# Altium integrated library Renesas Microprocessor SuperH.IntLib: 433 symbols (part 27 of 62)
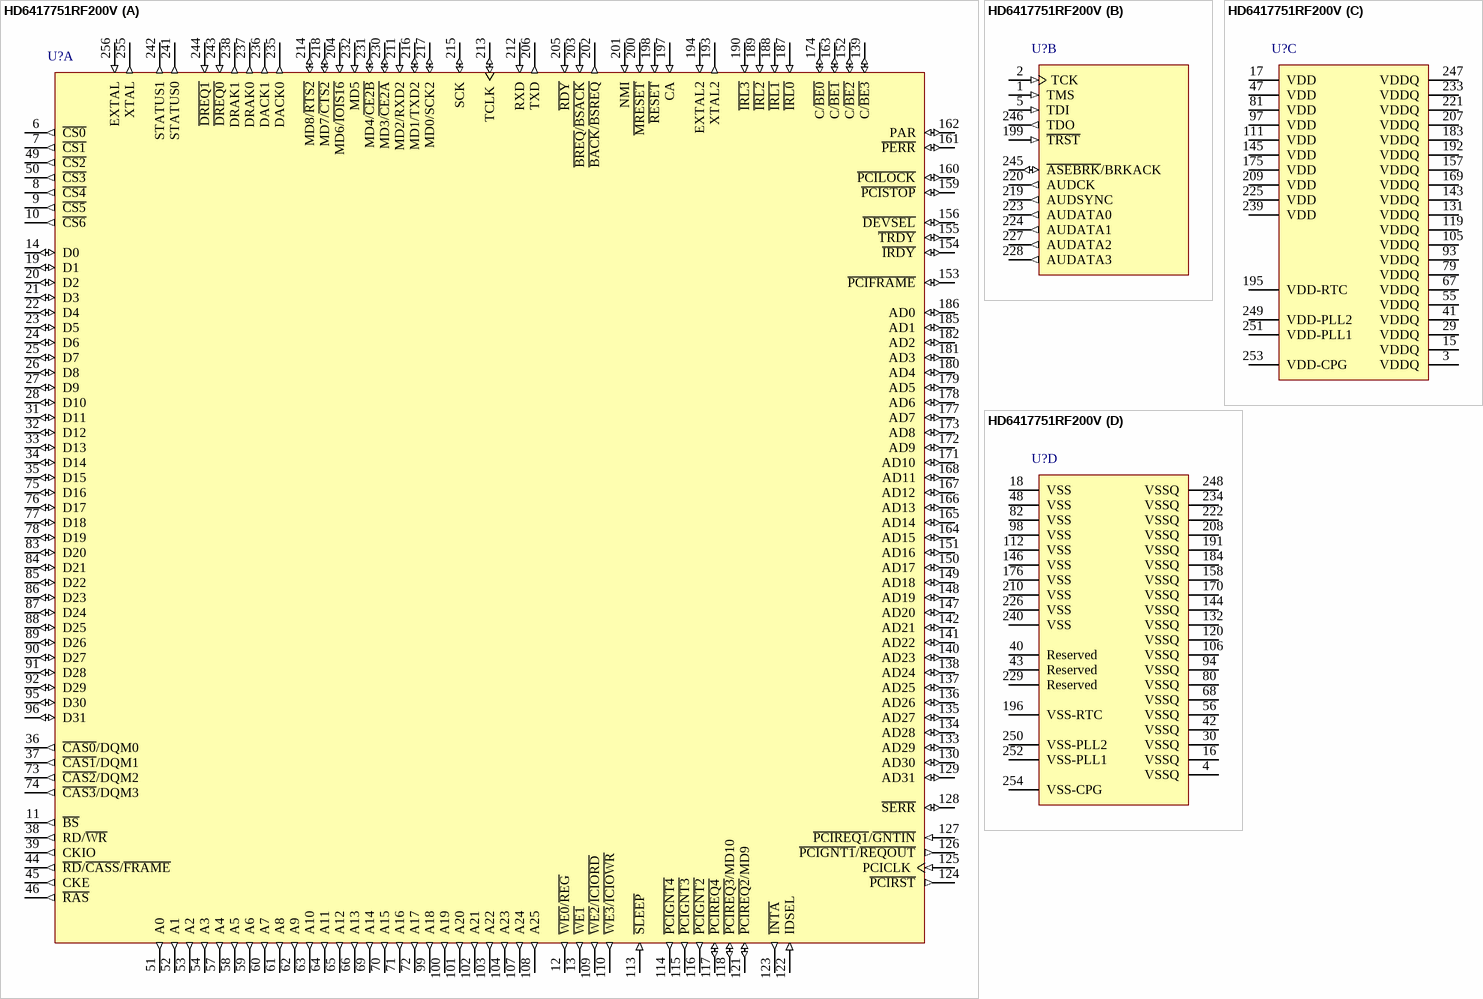
[diagram p299: symbol HD6417751RF200V]

## HD6417751RF200V
designator U?
32-Bit RISC Microcomputer, SH7750 Series, SH-4 core, 1.5V 200MHz, 256-pin QFP (Pb-Free), -20 to 75°C; Published: 28-Aug-2009; DatasheetVersion: Rev.4.00, Oct-2008; PackageVersion: Sep-2005; PackageReference: PRQP0256LA-B; Publisher: Altium Limited; PackageDescription: 256-Pin Plastic Quad Flat Pack, 28 x 28 x 3.2 mm Body, 0.4 mm Pitch; Supplier 1: Digi-Key; Supplier Part Number 1: HD6417751RF200V-ND; Code_JEITA: P-HQFP256-28x28-0.40; ComponentLink1Description: Manufacturer Link; ComponentLink1URL: http://www.renesas.com/fmwk.jsp?cnt=sh7751r_root.jsp&fp=/products/mpumcu/superh_family/sh7750_series/sh7751r_group/; ComponentLink2Description: Datasheet; ComponentLink2URL: http://documentation.renesas.com/eng/products/mpumcu/rej09b0370_7751hm.pdf; ComponentLink3Description: Packaging Specification; ComponentLink3URL: http://sg.renesas.com/media/products/common_info/package/pdf/ic/code/prqp0256la_b.pdf
footprint PRQP0256LA-B_N (Shrink QFP, 256-Leads, Body 28x28mm, Pitch 0.4mm, IPC Medium Density)
footprint PRQP0256LA-B_L (Shrink QFP, 256-Leads, Body 28x28mm, Pitch 0.4mm, IPC High Density)
footprint PRQP0256LA-B_M (Shrink QFP, 256-Leads, Body 28x28mm, Pitch 0.4mm, IPC Low Density)
part A pins: 6 ~{CS0} (out) "Chip select 0", 7 ~{CS1} (out) "Chip select 1", 8 ~{CS4} (out) "Chip select 4", 9 ~{CS5} (out) "Chip select 5", 10 ~{CS6} (out) "Chip select 6", 11 ~{BS} (out) "Bus start", 12 ~{WE0}/~{REG} (out) "D7–D0 select signal", 13 ~{WE1} (out) "D15-D8 select signal", 14 D0 (io) "Data", 19 D1 (io) "Data", 20 D2 (io) "Data", 21 D3 (io) "Data", 22 D4 (io) "Data", 23 D5 (io) "Data", 24 D6 (io) "Data", 25 D7 (io) "Data", 26 D8 (io) "Data", 27 D9 (io) "Data", 28 D10 (io) "Data", 31 D11 (io) "Data", 32 D12 (io) "Data", 33 D13 (io) "Data", 34 D14 (io) "Data", 35 D15 (io) "Data", 36 ~{CAS0}/DQM0 (out) "D7–D0 select signal", 37 ~{CAS1}/DQM1 (out) "D15–D8 select signal", 38 RD/~{WR} (out) "Read/write", 39 CKIO (out) "Clock output", 44 ~{RD}/~{CASS}/~{FRAME} (out) "Read/CAS/FRAME", 45 CKE (out) "Clock output enable", 46 ~{RAS} (out) "RAS", 49 ~{CS2} (out) "Chip select 2", 50 ~{CS3} (out) "Chip select 3", 51 A0 (out) "Address", 52 A1 (out) "Address", 53 A2 (out) "Address", 54 A3 (out) "Address", 57 A4 (out) "Address", 58 A5 (out) "Address", 59 A6 (out) "Address", 60 A7 (out) "Address", 61 A8 (out) "Address", 62 A9 (out) "Address", 63 A10 (out) "Address", 64 A11 (out) "Address", 65 A12 (out) "Address", 66 A13 (out) "Address", 69 A14 (out) "Address", 70 A15 (out) "Address", 71 A16 (out) "Address", 72 A17 (out) "Address", 73 ~{CAS2}/DQM2 (out) "D23–D16 select signal", 74 ~{CAS3}/DQM3 (out) "D31–D24 select signal", 75 D16 (io) "Data", 76 D17 (io) "Data", 77 D18 (io) "Data", 78 D19 (io) "Data", 83 D20 (io) "Data", 84 D21 (io) "Data", 85 D22 (io) "Data", 86 D23 (io) "Data", 87 D24 (io) "Data", 88 D25 (io) "Data", 89 D26 (io) "Data", 90 D27 (io) "Data", 91 D28 (io) "Data", 92 D29 (io) "Data", 95 D30 (io) "Data", 96 D31 (io) "Data", 99 A18 (out) "Address", 100 A19 (out) "Address", 101 A20 (out) "Address", 102 A21 (out) "Address", 103 A22 (out) "Address", 104 A23 (out) "Address", 107 A24 (out) "Address", 108 A25 (out) "Address", 109 ~{WE2}/~{ICIORD} (out) "D23–D16 select signal", 110 ~{WE3}/~{ICIOWR} (out) "D31–D24 select signal", 113 ~{SLEEP} (in) "Sleep", 114 ~{PCIGNT4} (out) "Bus grant (host function)", 115 ~{PCIGNT3} (out) "Bus grant (host function)", 116 ~{PCIGNT2} (out) "Bus grant (host function)", 117 ~{PCIREQ4} (io) "Bus request (host function)", 118 ~{PCIREQ3}/MD10 (io) "Bus request (host function)/mode", 121 ~{PCIREQ2}/MD9 (io) "Bus request (host function)/mode", 122 IDSEL (in) "Configuration device select", 123 ~{INTA} (out) "Interrupt (async)", 124 ~{PCIRST} (out) "Reset output", 125 PCICLK (in) "PCI input clock", 126 ~{PCIGNT1}/~{REQOUT} (out) "Bus grant (host function)/bus request", 127 ~{PCIREQ1}/~{GNTIN} (in) "Bus request (host function)/bus grant", 128 ~{SERR} (io) "System error", 129 AD31 (io) "PCI address/data/port", 130 AD30 (io) "PCI address/data/port", 133 AD29 (io) "PCI address/data/port", 134 AD28 (io) "PCI address/data/port", 135 AD27 (io) "PCI address/data/port", 136 AD26 (io) "PCI address/data/port", 137 AD25 (io) "PCI address/data/port", 138 AD24 (io) "PCI address/data/port", 139 C/~{BE3} (io) "Command/byte enable", 140 AD23 (io) "PCI address/data/port", 141 AD22 (io) "PCI address/data/port", 142 AD21 (io) "PCI address/data/port", 147 AD20 (io) "PCI address/data/port", 148 AD19 (io) "PCI address/data/port", 149 AD18 (io) "PCI address/data/port", 150 AD17 (io) "PCI address/data/port", 151 AD16 (io) "PCI address/data/port", 152 C/~{BE2} (io) "Command/byte enable", 153 ~{PCIFRAME} (io) "Bus cycle", 154 ~{IRDY} (io) "Initiator ready", 155 ~{TRDY} (io) "Target ready", 156 ~{DEVSEL} (io) "Device select", 159 ~{PCISTOP} (io) "Transaction stop", 160 ~{PCILOCK} (io) "Exclusive access", 161 ~{PERR} (io) "Parity error", 162 PAR (io) "Parity", 163 C/~{BE1} (io) "Command/byte enable", 164 AD15 (io) "PCI address/data/port", 165 AD14 (io) "PCI address/data/port", 166 AD13 (io) "PCI address/data/port", 167 AD12 (io) "PCI address/data/port", 168 AD11 (io) "PCI address/data/port", 171 AD10 (io) "PCI address/data/port", 172 AD9 (io) "PCI address/data/port", 173 AD8 (io) "PCI address/data/port", 174 C/~{BE0} (io) "Command/byte enable", 177 AD7 (io) "PCI address/data/port", 178 AD6 (io) "PCI address/data/port", 179 AD5 (io) "PCI address/data/port", 180 AD4 (io) "PCI address/data/port", 181 AD3 (io) "PCI address/data/port", 182 AD2 (io) "PCI address/data/port", 185 AD1 (io) "PCI address/data/port", 186 AD0 (io) "PCI address/data/port", 187 ~{IRL0} (in) "Interrupt 0", 188 ~{IRL1} (in) "Interrupt 1", 189 ~{IRL2} (in) "Interrupt 2", 190 ~{IRL3} (in) "Interrupt 3", 193 XTAL2 (out) "RTC crystal resonator pin", 194 EXTAL2 (in) "RTC crystal resonator pin", 197 CA (in) "Hardware standby", 198 ~{RESET} (in) "Reset", 200 ~{MRESET} (in) "Manual reset", 201 NMI (in) "Nonmaskable interrupt", 202 ~{BACK}/~{BSREQ} (out) "Bus acknowledge/bus request", 203 ~{BREQ}/~{BSACK} (in) "Bus request/bus acknowledge", 204 MD6/~{IOIS16} (in) "Mode/IOIS16 (PCMCIA)", 205 ~{RDY} (in) "Bus ready", 206 TXD (out) "SCI data output", 211 MD2/RXD2 (in) "Mode/SCIF data input", 212 RXD (in) "SCI data input", 213 TCLK (io) "RTC/TMU clock", 214 MD8/~{RTS2} (io) "Mode/SCIF data control (RTS)", 215 SCK (io) "SCIF clock", 216 MD1/TXD2 (io) "Mode/SCIF data output", 217 MD0/SCK2 (io) "Mode/SCIF clock", 218 MD7/~{CTS2} (io) "Mode/SCIF data control (CTS)", 230 MD3/~{CE2A} (io) "Mode/PCMCIA-CE", 231 MD4/~{CE2B} (io) "Mode/PCMCIA-CE", 232 MD5 (in) "Mode", 235 DACK0 (out) "DMAC0 bus acknowledge", 236 DACK1 (out) "DMAC1 bus acknowledge", 237 DRAK0 (out) "DMAC0 request acknowledge", 238 DRAK1 (out) "DMAC1 request acknowledge", 241 STATUS0 (out) "Status", 242 STATUS1 (out) "Status", 243 ~{DREQ0} (in) "Request from DMAC0", 244 ~{DREQ1} (in) "Request from DMAC1", 255 XTAL (out) "Crystal resonator", 256 EXTAL (in) "External input clock/crystal resonator"
part B pins: 1 TMS (in) "Mode (H-UDI)", 2 TCK (in) "Clock (H-UDI)", 5 TDI (in) "Data in (H-UDI)", 199 ~{TRST} (in) "Reset (H-UDI)", 219 AUDSYNC (out) "AUDsync", 220 AUDCK (out) "AUDclock", 223 AUDATA0 (out) "AUDdata", 224 AUDATA1 (out) "AUDdata", 227 AUDATA2 (out) "AUDdata", 228 AUDATA3 (out) "AUDdata", 245 ~{ASEBRK}/BRKACK (io) "Pin break/acknowledge (H-UDI)", 246 TDO (out) "Data out (H-UDI)"
part C pins: 3 VDDQ (power) "IO VDD", 15 VDDQ (power) "IO VDD", 17 VDD (power) "Internal VDD", 29 VDDQ (power) "IO VDD", 41 VDDQ (power) "IO VDD", 47 VDD (power) "Internal VDD", 55 VDDQ (power) "IO VDD", 67 VDDQ (power) "IO VDD", 79 VDDQ (power) "IO VDD", 81 VDD (power) "Internal VDD", 93 VDDQ (power) "IO VDD", 97 VDD (power) "Internal VDD", 105 VDDQ (power) "IO VDD", 111 VDD (power) "Internal VDD", 119 VDDQ (power) "IO VDD", 131 VDDQ (power) "IO VDD", 143 VDDQ (power) "IO VDD", 145 VDD (power) "Internal VDD", 157 VDDQ (power) "IO VDD", 169 VDDQ (power) "IO VDD", 175 VDD (power) "Internal VDD", 183 VDDQ (power) "I/O VDD", 192 VDDQ (power) "I/O VDD", 195 VDD-RTC (power) "RTC VDD", 207 VDDQ (power) "IO VDD", 209 VDD (power) "Internal VDD", 221 VDDQ (power) "IO VDD", 225 VDD (power) "Internal VDD", 233 VDDQ (power) "IO VDD", 239 VDD (power) "Internal VDD", 247 VDDQ (power) "IO VDD", 249 VDD-PLL2 (power) "PLL2 VDD", 251 VDD-PLL1 (power) "PLL1 VDD", 253 VDD-CPG (power) "CPG VDD"
part D pins: 4 VSSQ (power) "IO GND", 16 VSSQ (power) "IO GND", 18 VSS (power) "Internal GND", 30 VSSQ (power) "IO GND", 40 Reserved "Do not connect", 42 VSSQ (power) "IO GND", 43 Reserved "Do not connect", 48 VSS (power) "Internal GND", 56 VSSQ (power) "IO GND", 68 VSSQ (power) "IO GND", 80 VSSQ (power) "IO GND", 82 VSS (power) "Internal GND", 94 VSSQ (power) "IO GND", 98 VSS (power) "Internal GND", 106 VSSQ (power) "IO GND", 112 VSS (power) "Internal GND", 120 VSSQ (power) "IO GND", 132 VSSQ (power) "IO GND", 144 VSSQ (power) "IO GND", 146 VSS (power) "Internal GND", 158 VSSQ (power) "IO GND", 170 VSSQ (power) "IO GND", 176 VSS (power) "Internal GND", 184 VSSQ (power) "I/O GND", 191 VSSQ (power) "I/O GND", 196 VSS-RTC (power) "RTC GND", 208 VSSQ (power) "IO GND", 210 VSS (power) "Internal GND", 222 VSSQ (power) "IO GND", 226 VSS (power) "Internal GND", 229 Reserved "Do not connect", 234 VSSQ (power) "IO GND", 240 VSS (power) "Internal GND", 248 VSSQ (power) "IO GND", 250 VSS-PLL2 (power) "PLL2 GND", 252 VSS-PLL1 (power) "PLL1 GND", 254 VSS-CPG (power) "CPG GND"

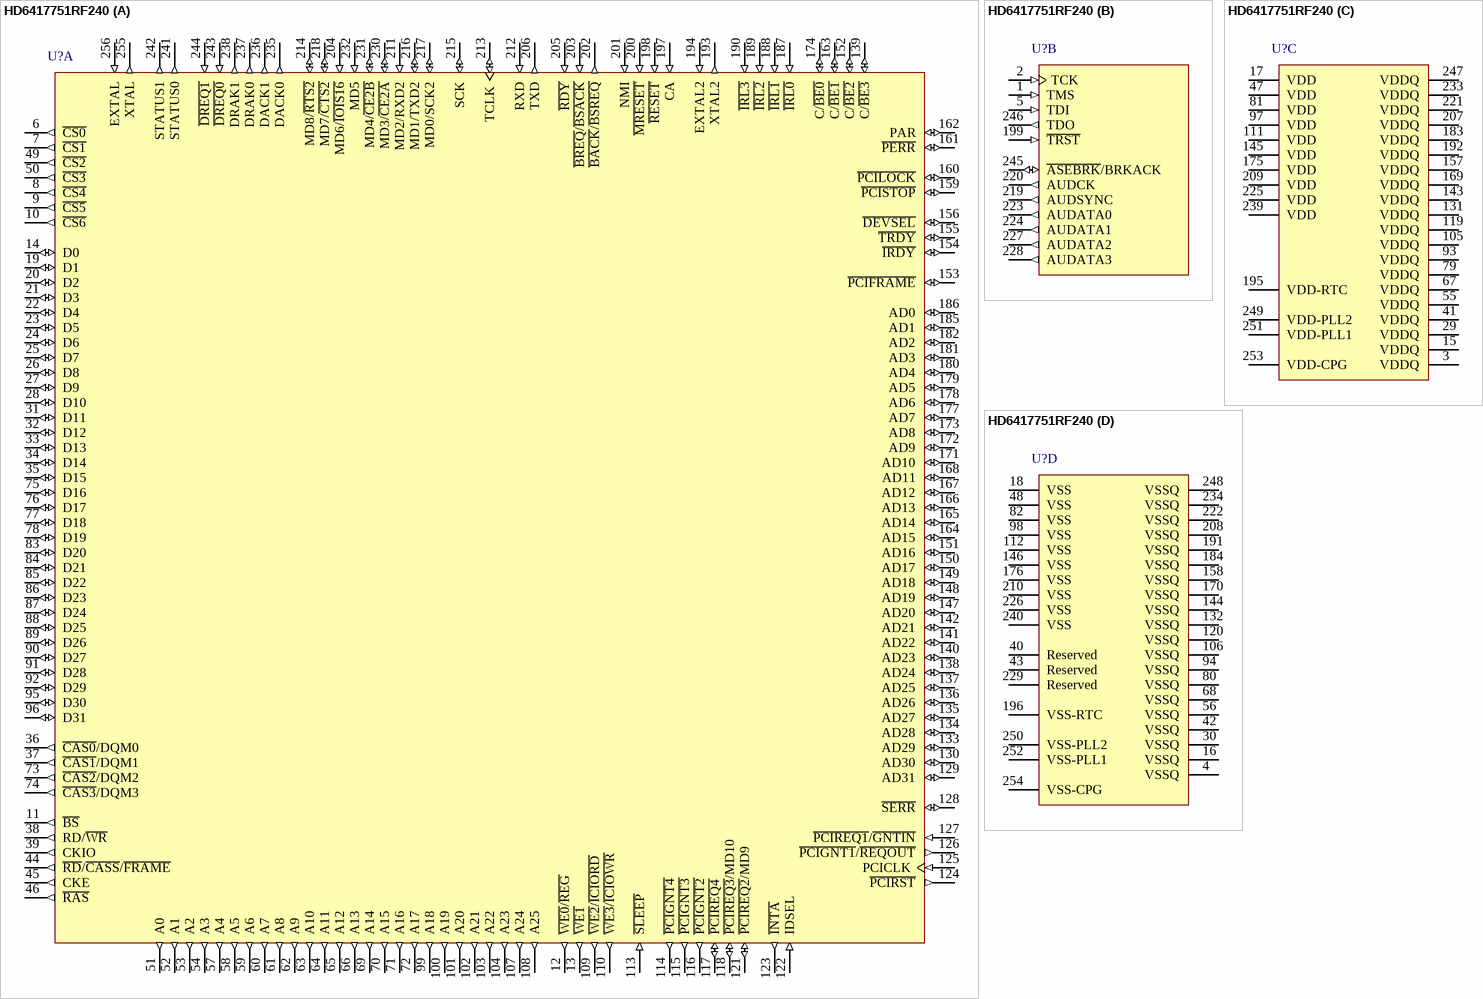
[diagram p100: symbol HD6417751RF240]

## HD6417751RF240
designator U?
32-Bit RISC Microcomputer, SH7750 Series, SH-4 core, 1.5V 240MHz, 256-pin QFP, -20 to 75°C; Published: 28-Aug-2009; DatasheetVersion: Rev.4.00, Oct-2008; PackageVersion: Sep-2005; PackageReference: PRQP0256LA-B; Publisher: Altium Limited; PackageDescription: 256-Pin Plastic Quad Flat Pack, 28 x 28 x 3.2 mm Body, 0.4 mm Pitch; Supplier 1: Digi-Key; Supplier Part Number 1: HD6417751RF240-ND; Code_JEITA: P-HQFP256-28x28-0.40; ComponentLink1Description: Manufacturer Link; ComponentLink1URL: http://www.renesas.com/fmwk.jsp?cnt=sh7751r_root.jsp&fp=/products/mpumcu/superh_family/sh7750_series/sh7751r_group/; ComponentLink2Description: Datasheet; ComponentLink2URL: http://documentation.renesas.com/eng/products/mpumcu/rej09b0370_7751hm.pdf; ComponentLink3Description: Packaging Specification; ComponentLink3URL: http://sg.renesas.com/media/products/common_info/package/pdf/ic/code/prqp0256la_b.pdf
footprint PRQP0256LA-B_N (Shrink QFP, 256-Leads, Body 28x28mm, Pitch 0.4mm, IPC Medium Density)
footprint PRQP0256LA-B_L (Shrink QFP, 256-Leads, Body 28x28mm, Pitch 0.4mm, IPC High Density)
footprint PRQP0256LA-B_M (Shrink QFP, 256-Leads, Body 28x28mm, Pitch 0.4mm, IPC Low Density)
part A pins: 6 ~{CS0} (out) "Chip select 0", 7 ~{CS1} (out) "Chip select 1", 8 ~{CS4} (out) "Chip select 4", 9 ~{CS5} (out) "Chip select 5", 10 ~{CS6} (out) "Chip select 6", 11 ~{BS} (out) "Bus start", 12 ~{WE0}/~{REG} (out) "D7–D0 select signal", 13 ~{WE1} (out) "D15-D8 select signal", 14 D0 (io) "Data", 19 D1 (io) "Data", 20 D2 (io) "Data", 21 D3 (io) "Data", 22 D4 (io) "Data", 23 D5 (io) "Data", 24 D6 (io) "Data", 25 D7 (io) "Data", 26 D8 (io) "Data", 27 D9 (io) "Data", 28 D10 (io) "Data", 31 D11 (io) "Data", 32 D12 (io) "Data", 33 D13 (io) "Data", 34 D14 (io) "Data", 35 D15 (io) "Data", 36 ~{CAS0}/DQM0 (out) "D7–D0 select signal", 37 ~{CAS1}/DQM1 (out) "D15–D8 select signal", 38 RD/~{WR} (out) "Read/write", 39 CKIO (out) "Clock output", 44 ~{RD}/~{CASS}/~{FRAME} (out) "Read/CAS/FRAME", 45 CKE (out) "Clock output enable", 46 ~{RAS} (out) "RAS", 49 ~{CS2} (out) "Chip select 2", 50 ~{CS3} (out) "Chip select 3", 51 A0 (out) "Address", 52 A1 (out) "Address", 53 A2 (out) "Address", 54 A3 (out) "Address", 57 A4 (out) "Address", 58 A5 (out) "Address", 59 A6 (out) "Address", 60 A7 (out) "Address", 61 A8 (out) "Address", 62 A9 (out) "Address", 63 A10 (out) "Address", 64 A11 (out) "Address", 65 A12 (out) "Address", 66 A13 (out) "Address", 69 A14 (out) "Address", 70 A15 (out) "Address", 71 A16 (out) "Address", 72 A17 (out) "Address", 73 ~{CAS2}/DQM2 (out) "D23–D16 select signal", 74 ~{CAS3}/DQM3 (out) "D31–D24 select signal", 75 D16 (io) "Data", 76 D17 (io) "Data", 77 D18 (io) "Data", 78 D19 (io) "Data", 83 D20 (io) "Data", 84 D21 (io) "Data", 85 D22 (io) "Data", 86 D23 (io) "Data", 87 D24 (io) "Data", 88 D25 (io) "Data", 89 D26 (io) "Data", 90 D27 (io) "Data", 91 D28 (io) "Data", 92 D29 (io) "Data", 95 D30 (io) "Data", 96 D31 (io) "Data", 99 A18 (out) "Address", 100 A19 (out) "Address", 101 A20 (out) "Address", 102 A21 (out) "Address", 103 A22 (out) "Address", 104 A23 (out) "Address", 107 A24 (out) "Address", 108 A25 (out) "Address", 109 ~{WE2}/~{ICIORD} (out) "D23–D16 select signal", 110 ~{WE3}/~{ICIOWR} (out) "D31–D24 select signal", 113 ~{SLEEP} (in) "Sleep", 114 ~{PCIGNT4} (out) "Bus grant (host function)", 115 ~{PCIGNT3} (out) "Bus grant (host function)", 116 ~{PCIGNT2} (out) "Bus grant (host function)", 117 ~{PCIREQ4} (io) "Bus request (host function)", 118 ~{PCIREQ3}/MD10 (io) "Bus request (host function)/mode", 121 ~{PCIREQ2}/MD9 (io) "Bus request (host function)/mode", 122 IDSEL (in) "Configuration device select", 123 ~{INTA} (out) "Interrupt (async)", 124 ~{PCIRST} (out) "Reset output", 125 PCICLK (in) "PCI input clock", 126 ~{PCIGNT1}/~{REQOUT} (out) "Bus grant (host function)/bus request", 127 ~{PCIREQ1}/~{GNTIN} (in) "Bus request (host function)/bus grant", 128 ~{SERR} (io) "System error", 129 AD31 (io) "PCI address/data/port", 130 AD30 (io) "PCI address/data/port", 133 AD29 (io) "PCI address/data/port", 134 AD28 (io) "PCI address/data/port", 135 AD27 (io) "PCI address/data/port", 136 AD26 (io) "PCI address/data/port", 137 AD25 (io) "PCI address/data/port", 138 AD24 (io) "PCI address/data/port", 139 C/~{BE3} (io) "Command/byte enable", 140 AD23 (io) "PCI address/data/port", 141 AD22 (io) "PCI address/data/port", 142 AD21 (io) "PCI address/data/port", 147 AD20 (io) "PCI address/data/port", 148 AD19 (io) "PCI address/data/port", 149 AD18 (io) "PCI address/data/port", 150 AD17 (io) "PCI address/data/port", 151 AD16 (io) "PCI address/data/port", 152 C/~{BE2} (io) "Command/byte enable", 153 ~{PCIFRAME} (io) "Bus cycle", 154 ~{IRDY} (io) "Initiator ready", 155 ~{TRDY} (io) "Target ready", 156 ~{DEVSEL} (io) "Device select", 159 ~{PCISTOP} (io) "Transaction stop", 160 ~{PCILOCK} (io) "Exclusive access", 161 ~{PERR} (io) "Parity error", 162 PAR (io) "Parity", 163 C/~{BE1} (io) "Command/byte enable", 164 AD15 (io) "PCI address/data/port", 165 AD14 (io) "PCI address/data/port", 166 AD13 (io) "PCI address/data/port", 167 AD12 (io) "PCI address/data/port", 168 AD11 (io) "PCI address/data/port", 171 AD10 (io) "PCI address/data/port", 172 AD9 (io) "PCI address/data/port", 173 AD8 (io) "PCI address/data/port", 174 C/~{BE0} (io) "Command/byte enable", 177 AD7 (io) "PCI address/data/port", 178 AD6 (io) "PCI address/data/port", 179 AD5 (io) "PCI address/data/port", 180 AD4 (io) "PCI address/data/port", 181 AD3 (io) "PCI address/data/port", 182 AD2 (io) "PCI address/data/port", 185 AD1 (io) "PCI address/data/port", 186 AD0 (io) "PCI address/data/port", 187 ~{IRL0} (in) "Interrupt 0", 188 ~{IRL1} (in) "Interrupt 1", 189 ~{IRL2} (in) "Interrupt 2", 190 ~{IRL3} (in) "Interrupt 3", 193 XTAL2 (out) "RTC crystal resonator pin", 194 EXTAL2 (in) "RTC crystal resonator pin", 197 CA (in) "Hardware standby", 198 ~{RESET} (in) "Reset", 200 ~{MRESET} (in) "Manual reset", 201 NMI (in) "Nonmaskable interrupt", 202 ~{BACK}/~{BSREQ} (out) "Bus acknowledge/bus request", 203 ~{BREQ}/~{BSACK} (in) "Bus request/bus acknowledge", 204 MD6/~{IOIS16} (in) "Mode/IOIS16 (PCMCIA)", 205 ~{RDY} (in) "Bus ready", 206 TXD (out) "SCI data output", 211 MD2/RXD2 (in) "Mode/SCIF data input", 212 RXD (in) "SCI data input", 213 TCLK (io) "RTC/TMU clock", 214 MD8/~{RTS2} (io) "Mode/SCIF data control (RTS)", 215 SCK (io) "SCIF clock", 216 MD1/TXD2 (io) "Mode/SCIF data output", 217 MD0/SCK2 (io) "Mode/SCIF clock", 218 MD7/~{CTS2} (io) "Mode/SCIF data control (CTS)", 230 MD3/~{CE2A} (io) "Mode/PCMCIA-CE", 231 MD4/~{CE2B} (io) "Mode/PCMCIA-CE", 232 MD5 (in) "Mode", 235 DACK0 (out) "DMAC0 bus acknowledge", 236 DACK1 (out) "DMAC1 bus acknowledge", 237 DRAK0 (out) "DMAC0 request acknowledge", 238 DRAK1 (out) "DMAC1 request acknowledge", 241 STATUS0 (out) "Status", 242 STATUS1 (out) "Status", 243 ~{DREQ0} (in) "Request from DMAC0", 244 ~{DREQ1} (in) "Request from DMAC1", 255 XTAL (out) "Crystal resonator", 256 EXTAL (in) "External input clock/crystal resonator"
part B pins: 1 TMS (in) "Mode (H-UDI)", 2 TCK (in) "Clock (H-UDI)", 5 TDI (in) "Data in (H-UDI)", 199 ~{TRST} (in) "Reset (H-UDI)", 219 AUDSYNC (out) "AUDsync", 220 AUDCK (out) "AUDclock", 223 AUDATA0 (out) "AUDdata", 224 AUDATA1 (out) "AUDdata", 227 AUDATA2 (out) "AUDdata", 228 AUDATA3 (out) "AUDdata", 245 ~{ASEBRK}/BRKACK (io) "Pin break/acknowledge (H-UDI)", 246 TDO (out) "Data out (H-UDI)"
part C pins: 3 VDDQ (power) "IO VDD", 15 VDDQ (power) "IO VDD", 17 VDD (power) "Internal VDD", 29 VDDQ (power) "IO VDD", 41 VDDQ (power) "IO VDD", 47 VDD (power) "Internal VDD", 55 VDDQ (power) "IO VDD", 67 VDDQ (power) "IO VDD", 79 VDDQ (power) "IO VDD", 81 VDD (power) "Internal VDD", 93 VDDQ (power) "IO VDD", 97 VDD (power) "Internal VDD", 105 VDDQ (power) "IO VDD", 111 VDD (power) "Internal VDD", 119 VDDQ (power) "IO VDD", 131 VDDQ (power) "IO VDD", 143 VDDQ (power) "IO VDD", 145 VDD (power) "Internal VDD", 157 VDDQ (power) "IO VDD", 169 VDDQ (power) "IO VDD", 175 VDD (power) "Internal VDD", 183 VDDQ (power) "I/O VDD", 192 VDDQ (power) "I/O VDD", 195 VDD-RTC (power) "RTC VDD", 207 VDDQ (power) "IO VDD", 209 VDD (power) "Internal VDD", 221 VDDQ (power) "IO VDD", 225 VDD (power) "Internal VDD", 233 VDDQ (power) "IO VDD", 239 VDD (power) "Internal VDD", 247 VDDQ (power) "IO VDD", 249 VDD-PLL2 (power) "PLL2 VDD", 251 VDD-PLL1 (power) "PLL1 VDD", 253 VDD-CPG (power) "CPG VDD"
part D pins: 4 VSSQ (power) "IO GND", 16 VSSQ (power) "IO GND", 18 VSS (power) "Internal GND", 30 VSSQ (power) "IO GND", 40 Reserved "Do not connect", 42 VSSQ (power) "IO GND", 43 Reserved "Do not connect", 48 VSS (power) "Internal GND", 56 VSSQ (power) "IO GND", 68 VSSQ (power) "IO GND", 80 VSSQ (power) "IO GND", 82 VSS (power) "Internal GND", 94 VSSQ (power) "IO GND", 98 VSS (power) "Internal GND", 106 VSSQ (power) "IO GND", 112 VSS (power) "Internal GND", 120 VSSQ (power) "IO GND", 132 VSSQ (power) "IO GND", 144 VSSQ (power) "IO GND", 146 VSS (power) "Internal GND", 158 VSSQ (power) "IO GND", 170 VSSQ (power) "IO GND", 176 VSS (power) "Internal GND", 184 VSSQ (power) "I/O GND", 191 VSSQ (power) "I/O GND", 196 VSS-RTC (power) "RTC GND", 208 VSSQ (power) "IO GND", 210 VSS (power) "Internal GND", 222 VSSQ (power) "IO GND", 226 VSS (power) "Internal GND", 229 Reserved "Do not connect", 234 VSSQ (power) "IO GND", 240 VSS (power) "Internal GND", 248 VSSQ (power) "IO GND", 250 VSS-PLL2 (power) "PLL2 GND", 252 VSS-PLL1 (power) "PLL1 GND", 254 VSS-CPG (power) "CPG GND"

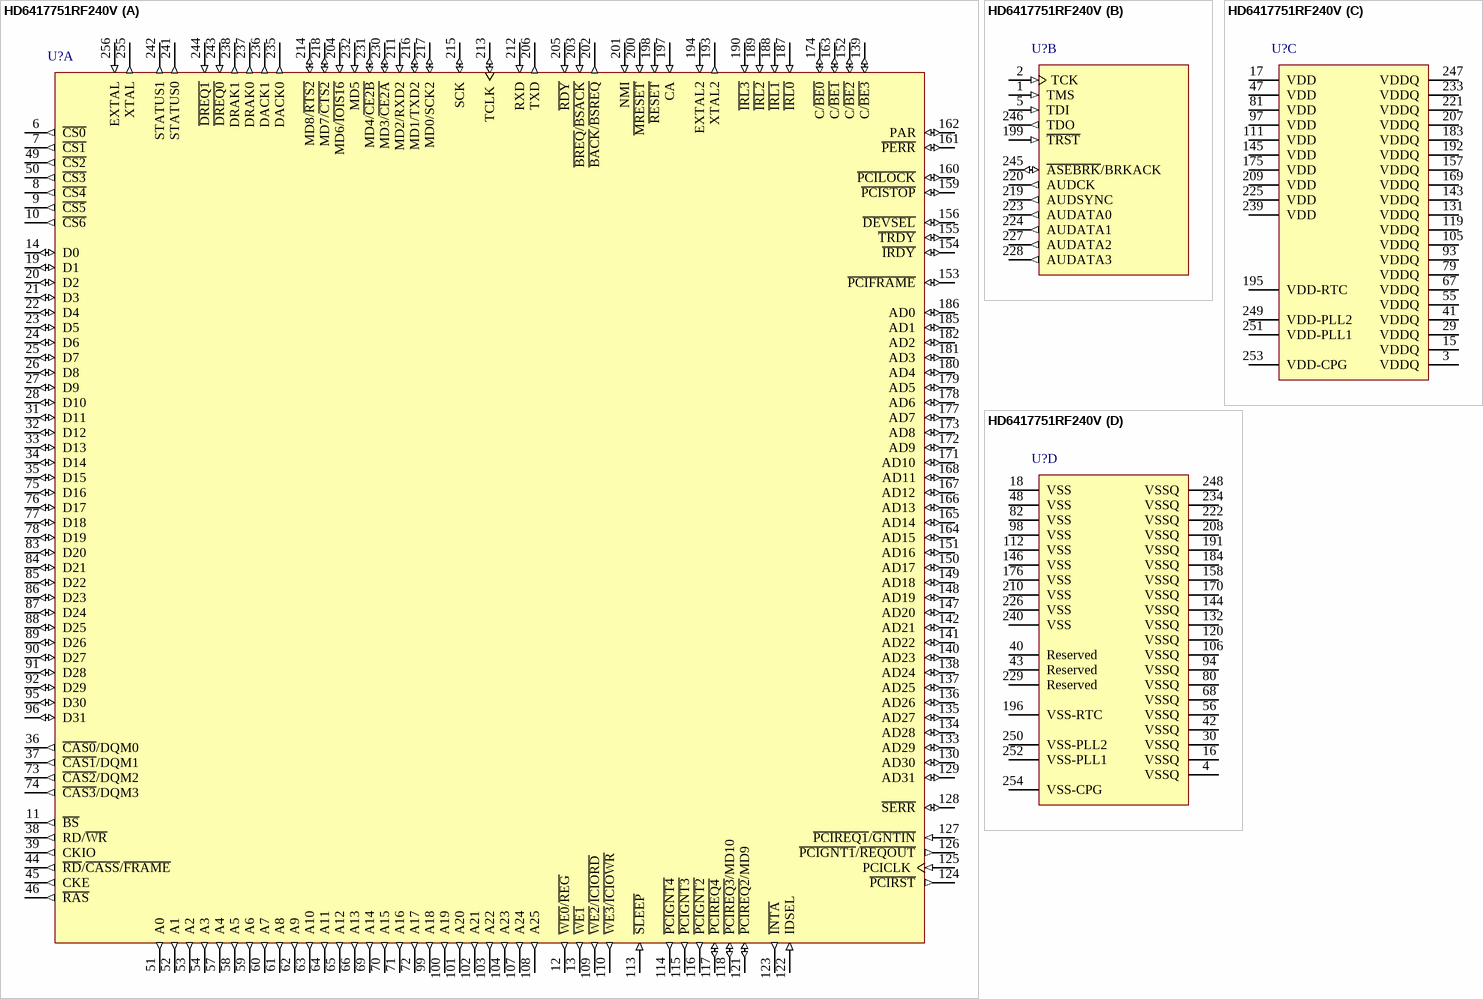
[diagram p101: symbol HD6417751RF240V]

## HD6417751RF240V
designator U?
32-Bit RISC Microcomputer, SH7750 Series, SH-4 core, 1.5V 240MHz, 256-pin QFP (Pb-Free), -20 to 75°C; Published: 28-Aug-2009; DatasheetVersion: Rev.4.00, Oct-2008; PackageVersion: Sep-2005; PackageReference: PRQP0256LA-B; Publisher: Altium Limited; PackageDescription: 256-Pin Plastic Quad Flat Pack, 28 x 28 x 3.2 mm Body, 0.4 mm Pitch; Supplier 1: Digi-Key; Supplier Part Number 1: HD6417751RF240V-ND; Code_JEITA: P-HQFP256-28x28-0.40; ComponentLink1Description: Manufacturer Link; ComponentLink1URL: http://www.renesas.com/fmwk.jsp?cnt=sh7751r_root.jsp&fp=/products/mpumcu/superh_family/sh7750_series/sh7751r_group/; ComponentLink2Description: Datasheet; ComponentLink2URL: http://documentation.renesas.com/eng/products/mpumcu/rej09b0370_7751hm.pdf; ComponentLink3Description: Packaging Specification; ComponentLink3URL: http://sg.renesas.com/media/products/common_info/package/pdf/ic/code/prqp0256la_b.pdf
footprint PRQP0256LA-B_N (Shrink QFP, 256-Leads, Body 28x28mm, Pitch 0.4mm, IPC Medium Density)
footprint PRQP0256LA-B_L (Shrink QFP, 256-Leads, Body 28x28mm, Pitch 0.4mm, IPC High Density)
footprint PRQP0256LA-B_M (Shrink QFP, 256-Leads, Body 28x28mm, Pitch 0.4mm, IPC Low Density)
part A pins: 6 ~{CS0} (out) "Chip select 0", 7 ~{CS1} (out) "Chip select 1", 8 ~{CS4} (out) "Chip select 4", 9 ~{CS5} (out) "Chip select 5", 10 ~{CS6} (out) "Chip select 6", 11 ~{BS} (out) "Bus start", 12 ~{WE0}/~{REG} (out) "D7–D0 select signal", 13 ~{WE1} (out) "D15-D8 select signal", 14 D0 (io) "Data", 19 D1 (io) "Data", 20 D2 (io) "Data", 21 D3 (io) "Data", 22 D4 (io) "Data", 23 D5 (io) "Data", 24 D6 (io) "Data", 25 D7 (io) "Data", 26 D8 (io) "Data", 27 D9 (io) "Data", 28 D10 (io) "Data", 31 D11 (io) "Data", 32 D12 (io) "Data", 33 D13 (io) "Data", 34 D14 (io) "Data", 35 D15 (io) "Data", 36 ~{CAS0}/DQM0 (out) "D7–D0 select signal", 37 ~{CAS1}/DQM1 (out) "D15–D8 select signal", 38 RD/~{WR} (out) "Read/write", 39 CKIO (out) "Clock output", 44 ~{RD}/~{CASS}/~{FRAME} (out) "Read/CAS/FRAME", 45 CKE (out) "Clock output enable", 46 ~{RAS} (out) "RAS", 49 ~{CS2} (out) "Chip select 2", 50 ~{CS3} (out) "Chip select 3", 51 A0 (out) "Address", 52 A1 (out) "Address", 53 A2 (out) "Address", 54 A3 (out) "Address", 57 A4 (out) "Address", 58 A5 (out) "Address", 59 A6 (out) "Address", 60 A7 (out) "Address", 61 A8 (out) "Address", 62 A9 (out) "Address", 63 A10 (out) "Address", 64 A11 (out) "Address", 65 A12 (out) "Address", 66 A13 (out) "Address", 69 A14 (out) "Address", 70 A15 (out) "Address", 71 A16 (out) "Address", 72 A17 (out) "Address", 73 ~{CAS2}/DQM2 (out) "D23–D16 select signal", 74 ~{CAS3}/DQM3 (out) "D31–D24 select signal", 75 D16 (io) "Data", 76 D17 (io) "Data", 77 D18 (io) "Data", 78 D19 (io) "Data", 83 D20 (io) "Data", 84 D21 (io) "Data", 85 D22 (io) "Data", 86 D23 (io) "Data", 87 D24 (io) "Data", 88 D25 (io) "Data", 89 D26 (io) "Data", 90 D27 (io) "Data", 91 D28 (io) "Data", 92 D29 (io) "Data", 95 D30 (io) "Data", 96 D31 (io) "Data", 99 A18 (out) "Address", 100 A19 (out) "Address", 101 A20 (out) "Address", 102 A21 (out) "Address", 103 A22 (out) "Address", 104 A23 (out) "Address", 107 A24 (out) "Address", 108 A25 (out) "Address", 109 ~{WE2}/~{ICIORD} (out) "D23–D16 select signal", 110 ~{WE3}/~{ICIOWR} (out) "D31–D24 select signal", 113 ~{SLEEP} (in) "Sleep", 114 ~{PCIGNT4} (out) "Bus grant (host function)", 115 ~{PCIGNT3} (out) "Bus grant (host function)", 116 ~{PCIGNT2} (out) "Bus grant (host function)", 117 ~{PCIREQ4} (io) "Bus request (host function)", 118 ~{PCIREQ3}/MD10 (io) "Bus request (host function)/mode", 121 ~{PCIREQ2}/MD9 (io) "Bus request (host function)/mode", 122 IDSEL (in) "Configuration device select", 123 ~{INTA} (out) "Interrupt (async)", 124 ~{PCIRST} (out) "Reset output", 125 PCICLK (in) "PCI input clock", 126 ~{PCIGNT1}/~{REQOUT} (out) "Bus grant (host function)/bus request", 127 ~{PCIREQ1}/~{GNTIN} (in) "Bus request (host function)/bus grant", 128 ~{SERR} (io) "System error", 129 AD31 (io) "PCI address/data/port", 130 AD30 (io) "PCI address/data/port", 133 AD29 (io) "PCI address/data/port", 134 AD28 (io) "PCI address/data/port", 135 AD27 (io) "PCI address/data/port", 136 AD26 (io) "PCI address/data/port", 137 AD25 (io) "PCI address/data/port", 138 AD24 (io) "PCI address/data/port", 139 C/~{BE3} (io) "Command/byte enable", 140 AD23 (io) "PCI address/data/port", 141 AD22 (io) "PCI address/data/port", 142 AD21 (io) "PCI address/data/port", 147 AD20 (io) "PCI address/data/port", 148 AD19 (io) "PCI address/data/port", 149 AD18 (io) "PCI address/data/port", 150 AD17 (io) "PCI address/data/port", 151 AD16 (io) "PCI address/data/port", 152 C/~{BE2} (io) "Command/byte enable", 153 ~{PCIFRAME} (io) "Bus cycle", 154 ~{IRDY} (io) "Initiator ready", 155 ~{TRDY} (io) "Target ready", 156 ~{DEVSEL} (io) "Device select", 159 ~{PCISTOP} (io) "Transaction stop", 160 ~{PCILOCK} (io) "Exclusive access", 161 ~{PERR} (io) "Parity error", 162 PAR (io) "Parity", 163 C/~{BE1} (io) "Command/byte enable", 164 AD15 (io) "PCI address/data/port", 165 AD14 (io) "PCI address/data/port", 166 AD13 (io) "PCI address/data/port", 167 AD12 (io) "PCI address/data/port", 168 AD11 (io) "PCI address/data/port", 171 AD10 (io) "PCI address/data/port", 172 AD9 (io) "PCI address/data/port", 173 AD8 (io) "PCI address/data/port", 174 C/~{BE0} (io) "Command/byte enable", 177 AD7 (io) "PCI address/data/port", 178 AD6 (io) "PCI address/data/port", 179 AD5 (io) "PCI address/data/port", 180 AD4 (io) "PCI address/data/port", 181 AD3 (io) "PCI address/data/port", 182 AD2 (io) "PCI address/data/port", 185 AD1 (io) "PCI address/data/port", 186 AD0 (io) "PCI address/data/port", 187 ~{IRL0} (in) "Interrupt 0", 188 ~{IRL1} (in) "Interrupt 1", 189 ~{IRL2} (in) "Interrupt 2", 190 ~{IRL3} (in) "Interrupt 3", 193 XTAL2 (out) "RTC crystal resonator pin", 194 EXTAL2 (in) "RTC crystal resonator pin", 197 CA (in) "Hardware standby", 198 ~{RESET} (in) "Reset", 200 ~{MRESET} (in) "Manual reset", 201 NMI (in) "Nonmaskable interrupt", 202 ~{BACK}/~{BSREQ} (out) "Bus acknowledge/bus request", 203 ~{BREQ}/~{BSACK} (in) "Bus request/bus acknowledge", 204 MD6/~{IOIS16} (in) "Mode/IOIS16 (PCMCIA)", 205 ~{RDY} (in) "Bus ready", 206 TXD (out) "SCI data output", 211 MD2/RXD2 (in) "Mode/SCIF data input", 212 RXD (in) "SCI data input", 213 TCLK (io) "RTC/TMU clock", 214 MD8/~{RTS2} (io) "Mode/SCIF data control (RTS)", 215 SCK (io) "SCIF clock", 216 MD1/TXD2 (io) "Mode/SCIF data output", 217 MD0/SCK2 (io) "Mode/SCIF clock", 218 MD7/~{CTS2} (io) "Mode/SCIF data control (CTS)", 230 MD3/~{CE2A} (io) "Mode/PCMCIA-CE", 231 MD4/~{CE2B} (io) "Mode/PCMCIA-CE", 232 MD5 (in) "Mode", 235 DACK0 (out) "DMAC0 bus acknowledge", 236 DACK1 (out) "DMAC1 bus acknowledge", 237 DRAK0 (out) "DMAC0 request acknowledge", 238 DRAK1 (out) "DMAC1 request acknowledge", 241 STATUS0 (out) "Status", 242 STATUS1 (out) "Status", 243 ~{DREQ0} (in) "Request from DMAC0", 244 ~{DREQ1} (in) "Request from DMAC1", 255 XTAL (out) "Crystal resonator", 256 EXTAL (in) "External input clock/crystal resonator"
part B pins: 1 TMS (in) "Mode (H-UDI)", 2 TCK (in) "Clock (H-UDI)", 5 TDI (in) "Data in (H-UDI)", 199 ~{TRST} (in) "Reset (H-UDI)", 219 AUDSYNC (out) "AUDsync", 220 AUDCK (out) "AUDclock", 223 AUDATA0 (out) "AUDdata", 224 AUDATA1 (out) "AUDdata", 227 AUDATA2 (out) "AUDdata", 228 AUDATA3 (out) "AUDdata", 245 ~{ASEBRK}/BRKACK (io) "Pin break/acknowledge (H-UDI)", 246 TDO (out) "Data out (H-UDI)"
part C pins: 3 VDDQ (power) "IO VDD", 15 VDDQ (power) "IO VDD", 17 VDD (power) "Internal VDD", 29 VDDQ (power) "IO VDD", 41 VDDQ (power) "IO VDD", 47 VDD (power) "Internal VDD", 55 VDDQ (power) "IO VDD", 67 VDDQ (power) "IO VDD", 79 VDDQ (power) "IO VDD", 81 VDD (power) "Internal VDD", 93 VDDQ (power) "IO VDD", 97 VDD (power) "Internal VDD", 105 VDDQ (power) "IO VDD", 111 VDD (power) "Internal VDD", 119 VDDQ (power) "IO VDD", 131 VDDQ (power) "IO VDD", 143 VDDQ (power) "IO VDD", 145 VDD (power) "Internal VDD", 157 VDDQ (power) "IO VDD", 169 VDDQ (power) "IO VDD", 175 VDD (power) "Internal VDD", 183 VDDQ (power) "I/O VDD", 192 VDDQ (power) "I/O VDD", 195 VDD-RTC (power) "RTC VDD", 207 VDDQ (power) "IO VDD", 209 VDD (power) "Internal VDD", 221 VDDQ (power) "IO VDD", 225 VDD (power) "Internal VDD", 233 VDDQ (power) "IO VDD", 239 VDD (power) "Internal VDD", 247 VDDQ (power) "IO VDD", 249 VDD-PLL2 (power) "PLL2 VDD", 251 VDD-PLL1 (power) "PLL1 VDD", 253 VDD-CPG (power) "CPG VDD"
part D pins: 4 VSSQ (power) "IO GND", 16 VSSQ (power) "IO GND", 18 VSS (power) "Internal GND", 30 VSSQ (power) "IO GND", 40 Reserved "Do not connect", 42 VSSQ (power) "IO GND", 43 Reserved "Do not connect", 48 VSS (power) "Internal GND", 56 VSSQ (power) "IO GND", 68 VSSQ (power) "IO GND", 80 VSSQ (power) "IO GND", 82 VSS (power) "Internal GND", 94 VSSQ (power) "IO GND", 98 VSS (power) "Internal GND", 106 VSSQ (power) "IO GND", 112 VSS (power) "Internal GND", 120 VSSQ (power) "IO GND", 132 VSSQ (power) "IO GND", 144 VSSQ (power) "IO GND", 146 VSS (power) "Internal GND", 158 VSSQ (power) "IO GND", 170 VSSQ (power) "IO GND", 176 VSS (power) "Internal GND", 184 VSSQ (power) "I/O GND", 191 VSSQ (power) "I/O GND", 196 VSS-RTC (power) "RTC GND", 208 VSSQ (power) "IO GND", 210 VSS (power) "Internal GND", 222 VSSQ (power) "IO GND", 226 VSS (power) "Internal GND", 229 Reserved "Do not connect", 234 VSSQ (power) "IO GND", 240 VSS (power) "Internal GND", 248 VSSQ (power) "IO GND", 250 VSS-PLL2 (power) "PLL2 GND", 252 VSS-PLL1 (power) "PLL1 GND", 254 VSS-CPG (power) "CPG GND"

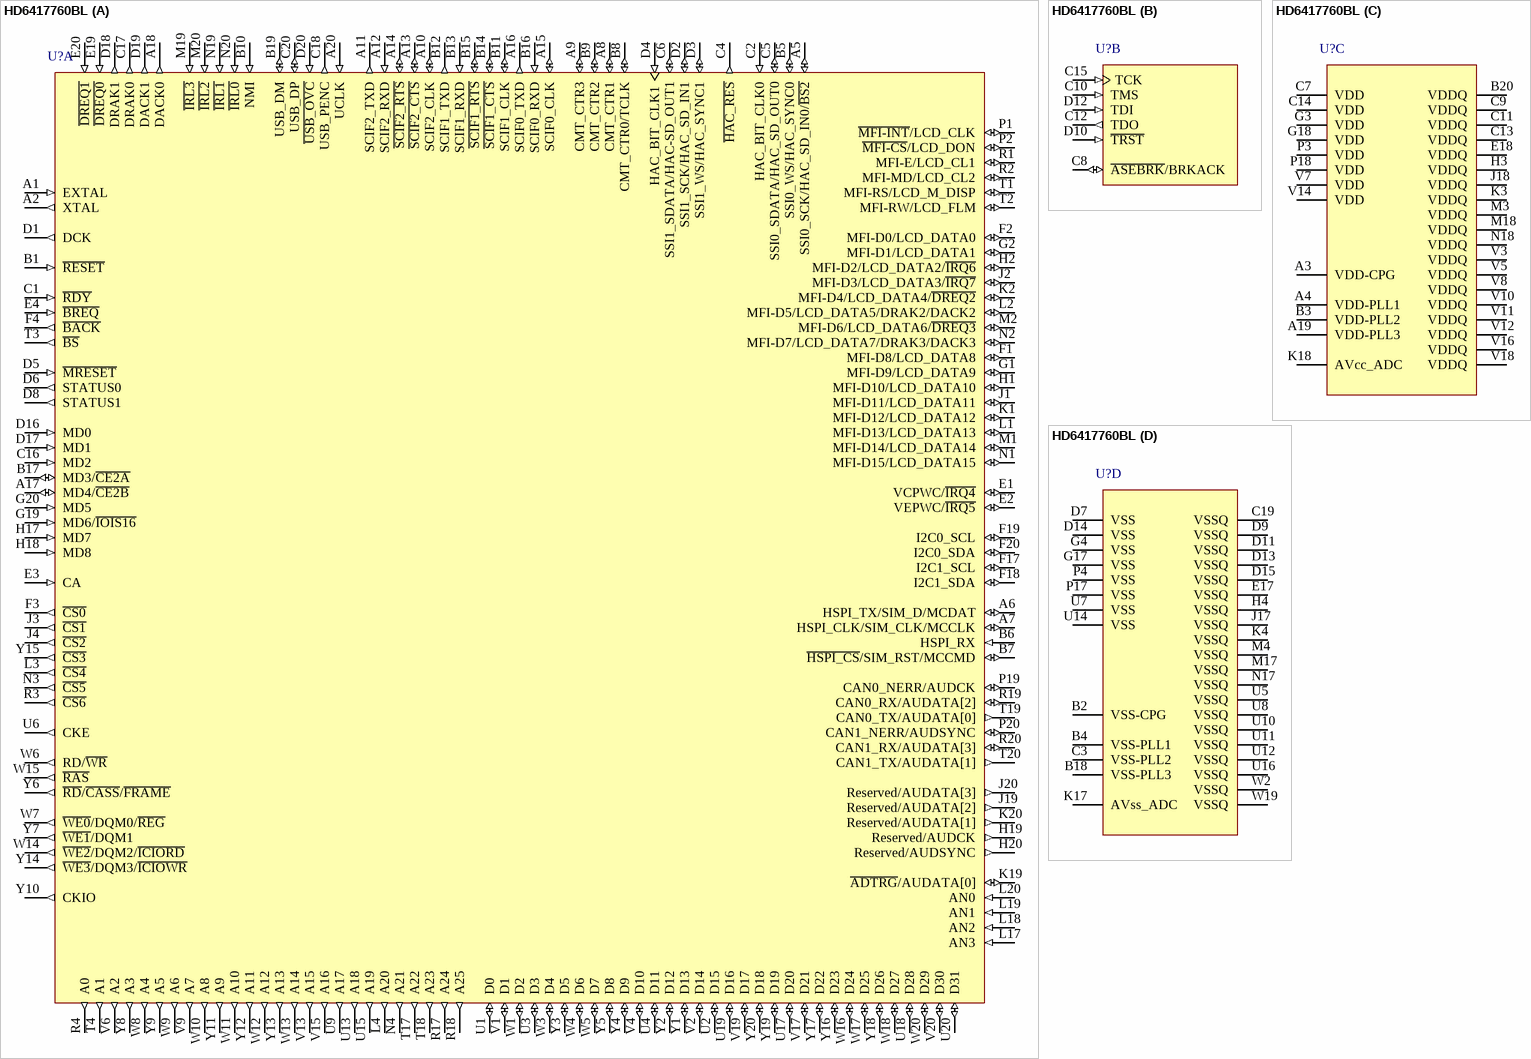
[diagram p102: symbol HD6417760BL]

## HD6417760BL
designator U?
32-Bit RISC Microcomputer, SH7750 Series, SH-4 core, 200MHz, 256-Pin LBGA, -40 to 85°C; Published: 28-Aug-2009; DatasheetVersion: Rev.1.0, Feb-2003; PackageVersion: Jun-2006; PackageReference: PLBG0256FA-A; Publisher: Altium Limited; PackageDescription: 256-Ball Plastic Ball Grid Array, 21 x 21 mm Body, 1 mm Pitch; Code_JEITA: P-LBGA256-21x21-1.00; ComponentLink1Description: Manufacturer Link; ComponentLink1URL: http://www.renesas.com/fmwk.jsp?cnt=sh7760_root.jsp&fp=/products/mpumcu/superh_family/sh7750_series/sh7760_group/; ComponentLink2Description: Datasheet; ComponentLink2URL: http://documentation.renesas.com/eng/products/mpumcu/e602291_sh7760.pdf; ComponentLink3Description: Packaging Specification; ComponentLink3URL: http://sg.renesas.com/media/products/common_info/package/pdf/ic/code/plbg0256fa_a.pdf
footprint PLBG0256FA-A (BGA, 256-Leads, Body 21x21mm, Pitch 1mm)
part A pins: A1 EXTAL (in) "External input clock/crystal resonator", A2 XTAL (out) "Crystal resonator", A5 SSI0_SCK/HAC_SD_IN0/~{BS2} (io) "SSI serial clock input/HAC serial data/bus start 2", A6 HSPI_TX/SIM_D/MCDAT (io) "HSPI transmit data/SIM data transfer/MMCIF data", A7 HSPI_CLK/SIM_CLK/MCCLK (io) "HSPI serial clock/SIM clock/MMCIF clock", A8 CMT_CTR1 (io) "CMT counter", A9 CMT_CTR3 (io) "CMT counter", A10 SCIF2_CLK (io) "SCIF serial clock", A11 SCIF2_TXD (out) "SCIF transmit data", A12 SCIF2_RXD (in) "SCIF receive data", A13 ~{SCIF2_CTS} (io) "SCIF modem control", A14 ~{SCIF2_RTS} (io) "SCIF modem control", A15 SCIF0_CLK (io) "SCIF serial clock", A16 SCIF0_TXD (out) "SCIF transmit data", A17 MD4/~{CE2B} (io) "Mode control 4/PCMCIA-CE", A18 DACK0 (out) "DMAC0 bus acknowledge", A20 UCLK (in) "USB operation clock", B1 ~{RESET} (in) "Reset", B5 SSI0_WS/HAC_SYNC0 (io) "SSI word selection/HAC from sync output", B6 HSPI_RX (in) "HSPI receive data input", B7 ~{HSPI_CS}/SIM_RST/MCCMD (io) "HSPI chip selection/SIM reset/MMCIF command/response", B8 CMT_CTR0/TCLK (io) "CMT counter/TMU clock", B9 CMT_CTR2 (io) "CMT counter", B10 NMI (in) "Non-maskerable interrupt", B11 SCIF1_CLK (io) "SCIF serial clock", B12 SCIF1_TXD (out) "SCIF transmit data", B13 SCIF1_RXD (in) "SCIF receive data", B14 ~{SCIF1_CTS} (io) "SCIF modem control", B15 ~{SCIF1_RTS} (io) "SCIF modem control", B16 SCIF0_RXD (in) "SCIF receive data", B17 MD3/~{CE2A} (io) "Mode control 3/PCMCIA-CE", B19 USB_DM (io) "USB D-transceiver", C1 ~{RDY} (in) "Bus ready", C2 HAC_BIT_CLK0 (in) "HAC serial data clock/SSI divider input clock", C4 ~{HAC_RES} (out) "HAC reset", C5 SSI0_SDATA/HAC_SD_OUT0 (io) "SSI serial data/HAC serial data", C6 SSI1_SDATA/HAC-SD_OUT1 (io) "SSI serial data/HAC serial data", C16 MD2 (in) "Mode control 2", C17 DRAK0 (out) "DMAC 1 request acknowledgement", C18 USB_PENC (out) "USB power-on enable control", C20 USB_DP (io) "USB D+ transceiver", D1 DCK (out) "Clock", D2 SSI1_SCK/HAC_SD_IN1 (io) "SSI clock/HAC serial data", D3 SSI1_WS/HAC_SYNC1 (io) "SSI word selection/HAC frame sync output", D4 HAC_BIT_CLK1 (in) "HAC serial data clock/SSI divider input clock", D5 ~{MRESET} (in) "Manual reset", D6 STATUS0 (out) "Status 0", D8 STATUS1 (out) "Status 1", D16 MD0 (in) "Mode control 0", D17 MD1 (in) "Mode control 1", D18 DRAK1 (out) "DMAC 1 request acknowledgement", D19 DACK1 (out) "DMAC 1 bus acknowledgement", D20 ~{USB_OVC} (in) "USB overcurrent detection", E1 VCPWC/~{IRQ4} (io) "LCDC panel power supply control (VCC)/external interrupt request 4", E2 VEPWC/~{IRQ5} (io) "LCDC panel power supply control (VEE)/external interrupt request 5", E3 CA (in) "Chip active", E4 ~{BREQ} (in) "Bus request", E19 ~{DREQ0} (in) "DMAC 0 request", E20 ~{DREQ1} (in) "DMAC 1 request", F1 MFI-D8/LCD_DATA8 (io) "MFI data/LCDC panel data", F2 MFI-D0/LCD_DATA0 (io) "MFI data/LCDC panel data", F3 ~{CS0} (out) "Chip select 1", F4 ~{BACK} (out) "Bus acknowledgement", F17 I2C1_SCL (io) "I2C serial clock", F18 I2C1_SDA (io) "I2C serial data", F19 I2C0_SCL (io) "I2C serial clock", F20 I2C0_SDA (io) "I2C serial data", G1 MFI-D9/LCD_DATA9 (io) "MFI data/LCDC panel data", G2 MFI-D1/LCD_DATA1 (io) "MFI data/LCDC panel data", G19 MD6/~{IOIS16} (in) "Mode control 6/IOIS16 (PCMCIA)", G20 MD5 (in) "Mode control 5", H1 MFI-D10/LCD_DATA10 (io) "MFI data/LCDC panel data", H2 MFI-D2/LCD_DATA2/~{IRQ6} (io) "MFI data/LCDC panel data/external interrupt request 6", H17 MD7 (in) "Mode control 7", H18 MD8 (in) "Mode control 8", H19 Reserved/AUDCK (out) "Reserved/H-UDI emulator", H20 Reserved/AUDSYNC (out) "Reserved/H-UDI emulator", J1 MFI-D11/LCD_DATA11 (io) "MFI data/LCDC panel data", J2 MFI-D3/LCD_DATA3/~{IRQ7} (io) "MFI data/LCDC panel data/external interrupt request 7", J3 ~{CS1} (out) "Chip select 1", J4 ~{CS2} (out) "Chip select 2", J19 Reserved/AUDATA[2] (out) "Reserved/H-UDI emulator", J20 Reserved/AUDATA[3] (out) "Reserved/H-UDI emulator", K1 MFI-D12/LCD_DATA12 (io) "MFI data/LCDC panel data", K2 MFI-D4/LCD_DATA4/~{DREQ2} (io) "MFI data/LCDC panel data/DMAC2 request", K19 ~{ADTRG}/AUDATA[0] (io) "A/D external trigger/H-UDI emulator", K20 Reserved/AUDATA[1] (out) "Reserved/H-UDI emulator", L1 MFI-D13/LCD_DATA13 (io) "MFI data/LCDC panel data", L2 MFI-D5/LCD_DATA5/DRAK2/DACK2 (io) "MFI data/LCDC panel data/DMAC2 request acknowledgement/DMAC2 bus acknowledgement", L3 ~{CS4} (out) "Chip select 4", L4 A20 (out) "Address bus", L17 AN3 (in) "ADC analog input", L18 AN2 (in) "ADC analog input", L19 AN1 (in) "ADC analog input", L20 AN0 (in) "ADC analog input", M1 MFI-D14/LCD_DATA14 (io) "MFI data/LCDC panel data", M2 MFI-D6/LCD_DATA6/~{DREQ3} (io) "MFI data/LCDC panel data/DMAC3 request", M19 ~{IRL3} (in) "IRL interrupt request 3", M20 ~{IRL2} (in) "IRL interrupt request 2", N1 MFI-D15/LCD_DATA15 (io) "MFI data/LCDC panel data", N2 MFI-D7/LCD_DATA7/DRAK3/DACK3 (io) "MFI data/LCDC panel data/DMAC3 request acknowledgement/DMAC3 bus acknowledgement", N3 ~{CS5} (out) "Chip select 5", N4 A21 (out) "Address bus", N19 ~{IRL1} (in) "IRL interrupt request 1", N20 ~{IRL0} (in) "IRL interrupt request 0", P1 ~{MFI-INT}/LCD_CLK (io) "MFI interrupt/LCDC clock", P2 ~{MFI-CS}/LCD_DON (io) "MFI chip selection/LCDC display-on signal", P19 CAN0_NERR/AUDCK (io) "HCAN0 bus error signal/H-UDI emulator", P20 CAN1_NERR/AUDSYNC (io) "HCAN1 bus error signal/H-UDI emulator", R1 MFI-E/LCD_CL1 (io) "MFI enable/ LCDC shift clock 1", R2 MFI-MD/LCD_CL2 (io) "MFI mode/LCDC shift clock 2", R3 ~{CS6} (out) "Chip select 6", R4 A0 (out) "Address bus", R17 A24 (out) "Address bus", R18 A25 (out) "Address bus", R19 CAN0_RX/AUDATA[2] (io) "HCAN0 bus data receive signal/H-UDI emulator", R20 CAN1_RX/AUDATA[3] (io) "HCAN1 bus data receive signal/H-UDI emulator", T1 MFI-RS/LCD_M_DISP (io) "MFI register select/LCDC current-alternating signal/DISP signal", T2 MFI-RW/LCD_FLM (io) "MFI read-write/read/LCDC first line marker", T3 ~{BS} (out) "Bus start", T4 A1 (out) "Address bus", T17 A22 (out) "Address bus", T18 A23 (out) "Address bus", T19 CAN0_TX/AUDATA[0] (out) "HCAN0 bus data transmit signal/H-UDI emulator", T20 CAN1_TX/AUDATA[1] (out) "HCAN1 bus data transmit signal/H-UDI emulator", U1 D0 (io) "Data bus", U2 D15 (io) "Data bus", U3 D3 (io) "Data bus", U4 D11 (io) "Data bus", U6 CKE (out) "Clock output enable", U9 A17 (out) "Address bus", U13 A18 (out) "Address bus", U15 A19 (out) "Address bus", U17 D20 (io) "Data bus", U18 D28 (io) "Data bus", U19 D16 (io) "Data bus", U20 D31 (io) "Data bus", V1 D1 (io) "Data bus", V2 D14 (io) "Data bus", V4 D10 (io) "Data bus", V6 A2 (out) "Address bus", V9 A7 (out) "Address bus", V13 A15 (out) "Address bus", V15 A16 (out) "Address bus", V17 D21 (io) "Data bus", V19 D17 (io) "Data bus", V20 D30 (io) "Data bus", W1 D2 (io) "Data bus", W3 D4 (io) "Data bus", W4 D6 (io) "Data bus", W5 D7 (io) "Data bus", W6 RD/~{WR} (out) "Read/write", W7 ~{WE0}/DQM0/~{REG} (out) "Selection signal for D7 to D0/REG", W8 A4 (out) "Address bus", W9 A6 (out) "Address bus", W10 A8 (out) "Address bus", W11 A10 (out) "Address bus", W12 A12 (out) "Address bus", W13 A14 (out) "Address bus", W14 ~{WE2}/DQM2/~{ICIORD} (out) "Selection signal for D23 to D16/ICIORD", W15 ~{RAS} (out) "RAS", W16 D24 (io) "Data bus", W17 D25 (io) "Data bus", W18 D27 (io) "Data bus", W20 D29 (io) "Data bus", Y1 D13 (io) "Data bus", Y2 D12 (io) "Data bus", Y3 D5 (io) "Data bus", Y4 D9 (io) "Data bus", Y5 D8 (io) "Data bus", Y6 ~{RD}/~{CASS}/~{FRAME} (out) "Read/CAS/FRAME", Y7 ~{WE1}/DQM1 (out) "Selection signal for D15 to D8", Y8 A3 (out) "Address bus", Y9 A5 (out) "Address bus", Y10 CKIO (out) "Clock output", Y11 A9 (out) "Address bus", Y12 A11 (out) "Address bus", Y13 A13 (out) "Address bus", Y14 ~{WE3}/DQM3/~{ICIOWR} (out) "Selection signal for D31 to D24/ICIOWR", Y15 ~{CS3} (out) "Chip select 3", Y16 D23 (io) "Data bus", Y17 D22 (io) "Data bus", Y18 D26 (io) "Data bus", Y19 D19 (io) "Data bus", Y20 D18 (io) "Data bus"
part B pins: C8 ~{ASEBRK}/BRKACK (io) "H-UDI emulator", C10 TMS (in) "H-UDI mode", C12 TDO (out) "H_UDI data", C15 TCK (in) "H-UDI clock", D10 ~{TRST} (in) "H-UDI reset", D12 TDI (in) "H-UDI data"
part C pins: A3 VDD-CPG (power) "CPG VDD", A4 VDD-PLL1 (power) "PLL1 VDD", A19 VDD-PLL3 (power) "PLL3 VDD", B3 VDD-PLL2 (power) "PLL2 VDD", B20 VDDQ (power) "USB analog VDD", C7 VDD (power) "Internal VDD", C9 VDDQ (power) "I/O VDD", C11 VDDQ (power) "I/O VDD", C13 VDDQ (power) "I/O VDD", C14 VDD (power) "Internal VDD", E18 VDDQ (power) "I/O VDD", G3 VDD (power) "Internal VDD", G18 VDD (power) "Internal VDD", H3 VDDQ (power) "IO VDD", J18 VDDQ (power) "IO VDD", K3 VDDQ (power) "IO VDD", K18 AVcc_ADC (power) "ADC analog VCC", M3 VDDQ (power) "IO VDD", M18 VDDQ (power) "IO VDD", N18 VDDQ (power) "IO VDD", P3 VDD (power) "Internal VDD", P18 VDD (power) "Internal VDD", V3 VDDQ (power) "IO VDD", V5 VDDQ (power) "IO VDD", V7 VDD (power) "Internal VDD", V8 VDDQ (power) "IO VDD", V10 VDDQ (power) "IO VDD", V11 VDDQ (power) "IO VDD", V12 VDDQ (power) "IO VDD", V14 VDD (power) "Internal VDD", V16 VDDQ (power) "IO VDD", V18 VDDQ (power) "IO VDD"
part D pins: B2 VSS-CPG (power) "CPG GND", B4 VSS-PLL1 (power) "PLL1 VSS", B18 VSS-PLL3 (power) "PLL3 GND", C3 VSS-PLL2 (power) "PLL2 GND", C19 VSSQ (power) "USB analog VSS", D7 VSS (power) "Internal GND", D9 VSSQ (power) "I/O GND", D11 VSSQ (power) "I/O GND", D13 VSSQ (power) "I/O GND", D14 VSS (power) "Internal GND", D15 VSSQ (power) "I/O GND", E17 VSSQ (power) "I/O GND", G4 VSS (power) "Internal GND", G17 VSS (power) "Internal GND", H4 VSSQ (power) "IO GND", J17 VSSQ (power) "IO GND", K4 VSSQ (power) "IO GND", K17 AVss_ADC (power) "ADC analog GND", M4 VSSQ (power) "IO GND", M17 VSSQ (power) "IO GND", N17 VSSQ (power) "IO GND", P4 VSS (power) "Internal GND", P17 VSS (power) "Internal GND", U5 VSSQ (power) "IO GND", U7 VSS (power) "Internal GND", U8 VSSQ (power) "IO GND", U10 VSSQ (power) "IO GND", U11 VSSQ (power) "IO GND", U12 VSSQ (power) "IO GND", U14 VSS (power) "Internal GND", U16 VSSQ (power) "IO GND", W2 VSSQ (power) "IO GND", W19 VSSQ (power) "IO GND"

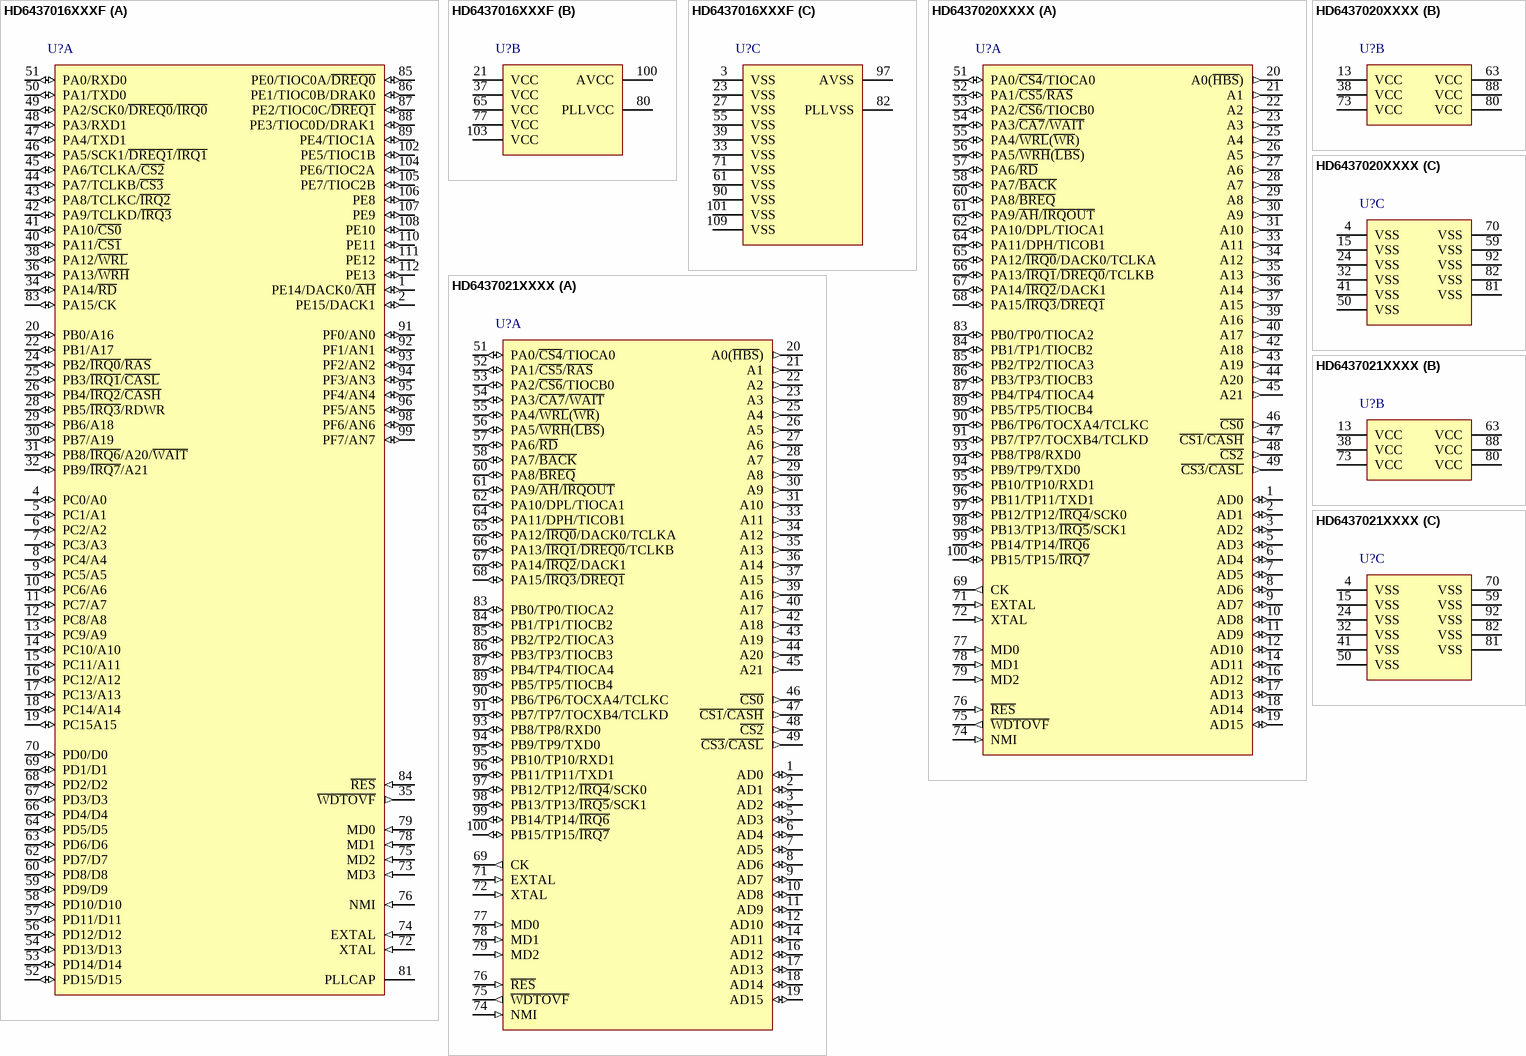
[diagram p103: symbols HD6437016XXXF to HD6437021XXXX]

## HD6437016XXXF
designator U?
32-Bit RISC Microcomputer, SH7010 Series, SH-2 core, 28.7MHz, 64K ROM, 3K(1K) RAM, PRQP0112JA-A (FP-112) Package, -20 to 75°C; Published: 28-Aug-2009; DatasheetVersion: Rev.5.00, Sep-2007; PackageVersion: Sep-2005; PackageReference: PRQP0112JA-A; Publisher: Altium Limited; PackageDescription: 112-Pin Plastic Quad Flat Pack, 20 x 20 x 2.7 mm Body, 0.65 mm Pitch; Code_JEITA: P-QFP112-20x20-0.65; ComponentLink1Description: Manufacturer Link; ComponentLink1URL: http://www.renesas.com/fmwk.jsp?cnt=sh7014_root.jsp&fp=/products/mpumcu/superh_family/sh7010_series/sh7014_group/; ComponentLink2Description: Datasheet; ComponentLink2URL: http://documentation.renesas.com/eng/products/mpumcu/rej09b0398_7014hm.pdf; ComponentLink3Description: Packaging Specification; ComponentLink3URL: http://sg.renesas.com/media/products/common_info/package/pdf/ic/code/prqp0112ja_a.pdf
footprint PRQP0112JA-A_N (QFP, 112-Leads, Body 20x20mm, Pitch 0.65mm, IPC Medium Density)
footprint PRQP0112JA-A_L (QFP, 112-Leads, Body 20x20mm, Pitch 0.65mm, IPC High Density)
footprint PRQP0112JA-A_M (QFP, 112-Leads, Body 20x20mm, Pitch 0.65mm, IPC Low Density)
part A pins: 1 PE14/DACK0/~{AH} (io), 2 PE15/DACK1 (io), 4 PC0/A0 (io), 5 PC1/A1 (io), 6 PC2/A2 (io), 7 PC3/A3 (io), 8 PC4/A4 (io), 9 PC5/A5 (io), 10 PC6/A6 (io), 11 PC7/A7 (io), 12 PC8/A8 (io), 13 PC9/A9 (io), 14 PC10/A10 (io), 15 PC11/A11 (io), 16 PC12/A12 (io), 17 PC13/A13 (io), 18 PC14/A14 (io), 19 PC15A15 (io), 20 PB0/A16 (io), 22 PB1/A17 (io), 24 PB2/~{IRQ0}/~{RAS} (io), 25 PB3/~{IRQ1}/~{CASL} (io), 26 PB4/~{IRQ2}/~{CASH} (io), 28 PB5/~{IRQ3}/RDWR (io), 29 PB6/A18 (io), 30 PB7/A19 (io), 31 PB8/~{IRQ6}/A20/~{WAIT} (io), 32 PB9/~{IRQ7}/A21 (io), 34 PA14/~{RD} (io), 35 ~{WDTOVF} (out), 36 PA13/~{WRH} (io), 38 PA12/~{WRL} (io), 40 PA11/~{CS1} (io), 41 PA10/~{CS0} (io), 42 PA9/TCLKD/~{IRQ3} (io), 43 PA8/TCLKC/~{IRQ2} (io), 44 PA7/TCLKB/~{CS3} (io), 45 PA6/TCLKA/~{CS2} (io), 46 PA5/SCK1/~{DREQ1}/~{IRQ1} (io), 47 PA4/TXD1 (io), 48 PA3/RXD1 (io), 49 PA2/SCK0/~{DREQ0}/~{IRQ0} (io), 50 PA1/TXD0 (io), 51 PA0/RXD0 (io), 52 PD15/D15 (io), 53 PD14/D14 (io), 54 PD13/D13 (io), 56 PD12/D12 (io), 57 PD11/D11 (io), 58 PD10/D10 (io), 59 PD9/D9 (io), 60 PD8/D8 (io), 62 PD7/D7 (io), 63 PD6/D6 (io), 64 PD5/D5 (io), 66 PD4/D4 (io), 67 PD3/D3 (io), 68 PD2/D2 (io), 69 PD1/D1 (io), 70 PD0/D0 (io), 72 XTAL (in), 73 MD3 (in), 74 EXTAL (in), 75 MD2 (in), 76 NMI (in), 78 MD1 (in), 79 MD0 (in), 81 PLLCAP, 83 PA15/CK (io), 84 ~{RES} (in), 85 PE0/TIOC0A/~{DREQ0} (io), 86 PE1/TIOC0B/DRAK0 (io), 87 PE2/TIOC0C/~{DREQ1} (io), 88 PE3/TIOC0D/DRAK1 (io), 89 PE4/TIOC1A (io), 91 PF0/AN0 (io), 92 PF1/AN1 (io), 93 PF2/AN2 (io), 94 PF3/AN3 (io), 95 PF4/AN4 (io), 96 PF5/AN5 (io), 98 PF6/AN6 (io), 99 PF7/AN7 (io), 102 PE5/TIOC1B (io), 104 PE6/TIOC2A (io), 105 PE7/TIOC2B (io), 106 PE8 (io), 107 PE9 (io), 108 PE10 (io), 110 PE11 (io), 111 PE12 (io), 112 PE13 (io)
part B pins: 21 VCC (power), 37 VCC (power), 65 VCC (power), 77 VCC (power), 80 PLLVCC (power), 100 AVCC (power), 103 VCC (power)
part C pins: 3 VSS (power), 23 VSS (power), 27 VSS (power), 33 VSS (power), 39 VSS (power), 55 VSS (power), 61 VSS (power), 71 VSS (power), 82 PLLVSS (power), 90 VSS (power), 97 AVSS (power), 101 VSS (power), 109 VSS (power)

## HD6437020XXXX
designator U?
32-Bit RISC Microcomputer, SH7020 Series, SH-1 core, 20MHz, 16K ROM, 1K RAM, PTQP0100KA-A (TFP-100B) Package; Published: 28-Aug-2009; DatasheetVersion: Rev.3.0, Apr-2003; PackageVersion: Sep-2005; PackageReference: PTQP0100KA-A; Publisher: Altium Limited; PackageDescription: 100-Pin Plastic Thin Quad Flat Pack, 14 x 14 x 1.0 mm Body, 0.5 mm Pitch; Code_JEITA: P-TQFP100-14x14-0.50; ComponentLink1Description: Manufacturer Link; ComponentLink1URL: http://www.renesas.com/fmwk.jsp?cnt=sh7020_root.jsp&fp=/products/mpumcu/superh_family/sh7020_series/sh7020_group/; ComponentLink2Description: Datasheet; ComponentLink2URL: http://documentation.renesas.com/eng/products/mpumcu/e602074_sh7020.pdf; ComponentLink3Description: Packaging Specification; ComponentLink3URL: http://sg.renesas.com/media/products/common_info/package/pdf/ic/code/ptqp0100ka_a.pdf
footprint PTQP0100KA-A_N (Thin QFP, 100-Leads, Body 14x14mm, Pitch 0.5mm, IPC Medium Density)
footprint PTQP0100KA-A_L (Thin QFP, 100-Leads, Body 14x14mm, Pitch 0.5mm, IPC High Density)
footprint PTQP0100KA-A_M (Thin QFP, 100-Leads, Body 14x14mm, Pitch 0.5mm, IPC Low Density)
part A pins: 1 AD0 (io), 2 AD1 (io), 3 AD2 (io), 5 AD3 (io), 6 AD4 (io), 7 AD5 (io), 8 AD6 (io), 9 AD7 (io), 10 AD8 (io), 11 AD9 (io), 12 AD10 (io), 14 AD11 (io), 16 AD12 (io), 17 AD13 (io), 18 AD14 (io), 19 AD15 (io), 20 A0(~{HBS}) (out), 21 A1 (out), 22 A2 (out), 23 A3 (out), 25 A4 (out), 26 A5 (out), 27 A6 (out), 28 A7 (out), 29 A8 (out), 30 A9 (out), 31 A10 (out), 33 A11 (out), 34 A12 (out), 35 A13 (out), 36 A14 (out), 37 A15 (out), 39 A16 (out), 40 A17 (out), 42 A18 (out), 43 A19 (out), 44 A20 (out), 45 A21 (out), 46 ~{CS0} (out), 47 ~{CS1}/~{CASH} (out), 48 ~{CS2} (out), 49 ~{CS3}/~{CASL} (out), 51 PA0/~{CS4}/TIOCA0 (io), 52 PA1/~{CS5}/~{RAS} (io), 53 PA2/~{CS6}/TIOCB0 (io), 54 PA3/~{CA7}/~{WAIT} (io), 55 PA4/~{WRL}(~{WR}) (io), 56 PA5/~{WRH}(~{LBS}) (io), 57 PA6/~{RD} (io), 58 PA7/~{BACK} (io), 60 PA8/~{BREQ} (io), 61 PA9/~{AH}/~{IRQOUT} (io), 62 PA10/DPL/TIOCA1 (io), 64 PA11/DPH/TICOB1 (io), 65 PA12/~{IRQ0}/DACK0/TCLKA (io), 66 PA13/~{IRQ1}/~{DREQ0}/TCLKB (io), 67 PA14/~{IRQ2}/DACK1 (io), 68 PA15/~{IRQ3}/~{DREQ1} (io), 69 CK (out), 71 EXTAL (in), 72 XTAL (in), 74 NMI (in), 75 ~{WDTOVF} (out), 76 ~{RES} (in), 77 MD0 (in), 78 MD1 (in), 79 MD2 (in), 83 PB0/TP0/TIOCA2 (io), 84 PB1/TP1/TIOCB2 (io), 85 PB2/TP2/TIOCA3 (io), 86 PB3/TP3/TIOCB3 (io), 87 PB4/TP4/TIOCA4 (io), 89 PB5/TP5/TIOCB4 (io), 90 PB6/TP6/TOCXA4/TCLKC (io), 91 PB7/TP7/TOCXB4/TCLKD (io), 93 PB8/TP8/RXD0 (io), 94 PB9/TP9/TXD0 (io), 95 PB10/TP10/RXD1 (io), 96 PB11/TP11/TXD1 (io), 97 PB12/TP12/~{IRQ4}/SCK0 (io), 98 PB13/TP13/~{IRQ5}/SCK1 (io), 99 PB14/TP14/~{IRQ6} (io), 100 PB15/TP15/~{IRQ7} (io)
part B pins: 13 VCC (power), 38 VCC (power), 63 VCC (power), 73 VCC (power), 80 VCC (power), 88 VCC (power)
part C pins: 4 VSS (power), 15 VSS (power), 24 VSS (power), 32 VSS (power), 41 VSS (power), 50 VSS (power), 59 VSS (power), 70 VSS (power), 81 VSS (power), 82 VSS (power), 92 VSS (power)

## HD6437021XXXX
designator U?
32-Bit RISC Microcomputer, SH7020 Series, SH-1 core, 20MHz, 32K ROM, 1K RAM, PTQP0100KA-A (TFP-100B) Package; Published: 28-Aug-2009; DatasheetVersion: Rev.3.0, Apr-2003; PackageVersion: Sep-2005; PackageReference: PTQP0100KA-A; Publisher: Altium Limited; PackageDescription: 100-Pin Plastic Thin Quad Flat Pack, 14 x 14 x 1.0 mm Body, 0.5 mm Pitch; Code_JEITA: P-TQFP100-14x14-0.50; ComponentLink1Description: Manufacturer Link; ComponentLink1URL: http://www.renesas.com/fmwk.jsp?cnt=sh7020_root.jsp&fp=/products/mpumcu/superh_family/sh7020_series/sh7020_group/; ComponentLink2Description: Datasheet; ComponentLink2URL: http://documentation.renesas.com/eng/products/mpumcu/e602074_sh7020.pdf; ComponentLink3Description: Packaging Specification; ComponentLink3URL: http://sg.renesas.com/media/products/common_info/package/pdf/ic/code/ptqp0100ka_a.pdf
footprint PTQP0100KA-A_N (Thin QFP, 100-Leads, Body 14x14mm, Pitch 0.5mm, IPC Medium Density)
footprint PTQP0100KA-A_L (Thin QFP, 100-Leads, Body 14x14mm, Pitch 0.5mm, IPC High Density)
footprint PTQP0100KA-A_M (Thin QFP, 100-Leads, Body 14x14mm, Pitch 0.5mm, IPC Low Density)
part A pins: 1 AD0 (io), 2 AD1 (io), 3 AD2 (io), 5 AD3 (io), 6 AD4 (io), 7 AD5 (io), 8 AD6 (io), 9 AD7 (io), 10 AD8 (io), 11 AD9 (io), 12 AD10 (io), 14 AD11 (io), 16 AD12 (io), 17 AD13 (io), 18 AD14 (io), 19 AD15 (io), 20 A0(~{HBS}) (out), 21 A1 (out), 22 A2 (out), 23 A3 (out), 25 A4 (out), 26 A5 (out), 27 A6 (out), 28 A7 (out), 29 A8 (out), 30 A9 (out), 31 A10 (out), 33 A11 (out), 34 A12 (out), 35 A13 (out), 36 A14 (out), 37 A15 (out), 39 A16 (out), 40 A17 (out), 42 A18 (out), 43 A19 (out), 44 A20 (out), 45 A21 (out), 46 ~{CS0} (out), 47 ~{CS1}/~{CASH} (out), 48 ~{CS2} (out), 49 ~{CS3}/~{CASL} (out), 51 PA0/~{CS4}/TIOCA0 (io), 52 PA1/~{CS5}/~{RAS} (io), 53 PA2/~{CS6}/TIOCB0 (io), 54 PA3/~{CA7}/~{WAIT} (io), 55 PA4/~{WRL}(~{WR}) (io), 56 PA5/~{WRH}(~{LBS}) (io), 57 PA6/~{RD} (io), 58 PA7/~{BACK} (io), 60 PA8/~{BREQ} (io), 61 PA9/~{AH}/~{IRQOUT} (io), 62 PA10/DPL/TIOCA1 (io), 64 PA11/DPH/TICOB1 (io), 65 PA12/~{IRQ0}/DACK0/TCLKA (io), 66 PA13/~{IRQ1}/~{DREQ0}/TCLKB (io), 67 PA14/~{IRQ2}/DACK1 (io), 68 PA15/~{IRQ3}/~{DREQ1} (io), 69 CK (out), 71 EXTAL (in), 72 XTAL (in), 74 NMI (in), 75 ~{WDTOVF} (out), 76 ~{RES} (in), 77 MD0 (in), 78 MD1 (in), 79 MD2 (in), 83 PB0/TP0/TIOCA2 (io), 84 PB1/TP1/TIOCB2 (io), 85 PB2/TP2/TIOCA3 (io), 86 PB3/TP3/TIOCB3 (io), 87 PB4/TP4/TIOCA4 (io), 89 PB5/TP5/TIOCB4 (io), 90 PB6/TP6/TOCXA4/TCLKC (io), 91 PB7/TP7/TOCXB4/TCLKD (io), 93 PB8/TP8/RXD0 (io), 94 PB9/TP9/TXD0 (io), 95 PB10/TP10/RXD1 (io), 96 PB11/TP11/TXD1 (io), 97 PB12/TP12/~{IRQ4}/SCK0 (io), 98 PB13/TP13/~{IRQ5}/SCK1 (io), 99 PB14/TP14/~{IRQ6} (io), 100 PB15/TP15/~{IRQ7} (io)
part B pins: 13 VCC (power), 38 VCC (power), 63 VCC (power), 73 VCC (power), 80 VCC (power), 88 VCC (power)
part C pins: 4 VSS (power), 15 VSS (power), 24 VSS (power), 32 VSS (power), 41 VSS (power), 50 VSS (power), 59 VSS (power), 70 VSS (power), 81 VSS (power), 82 VSS (power), 92 VSS (power)

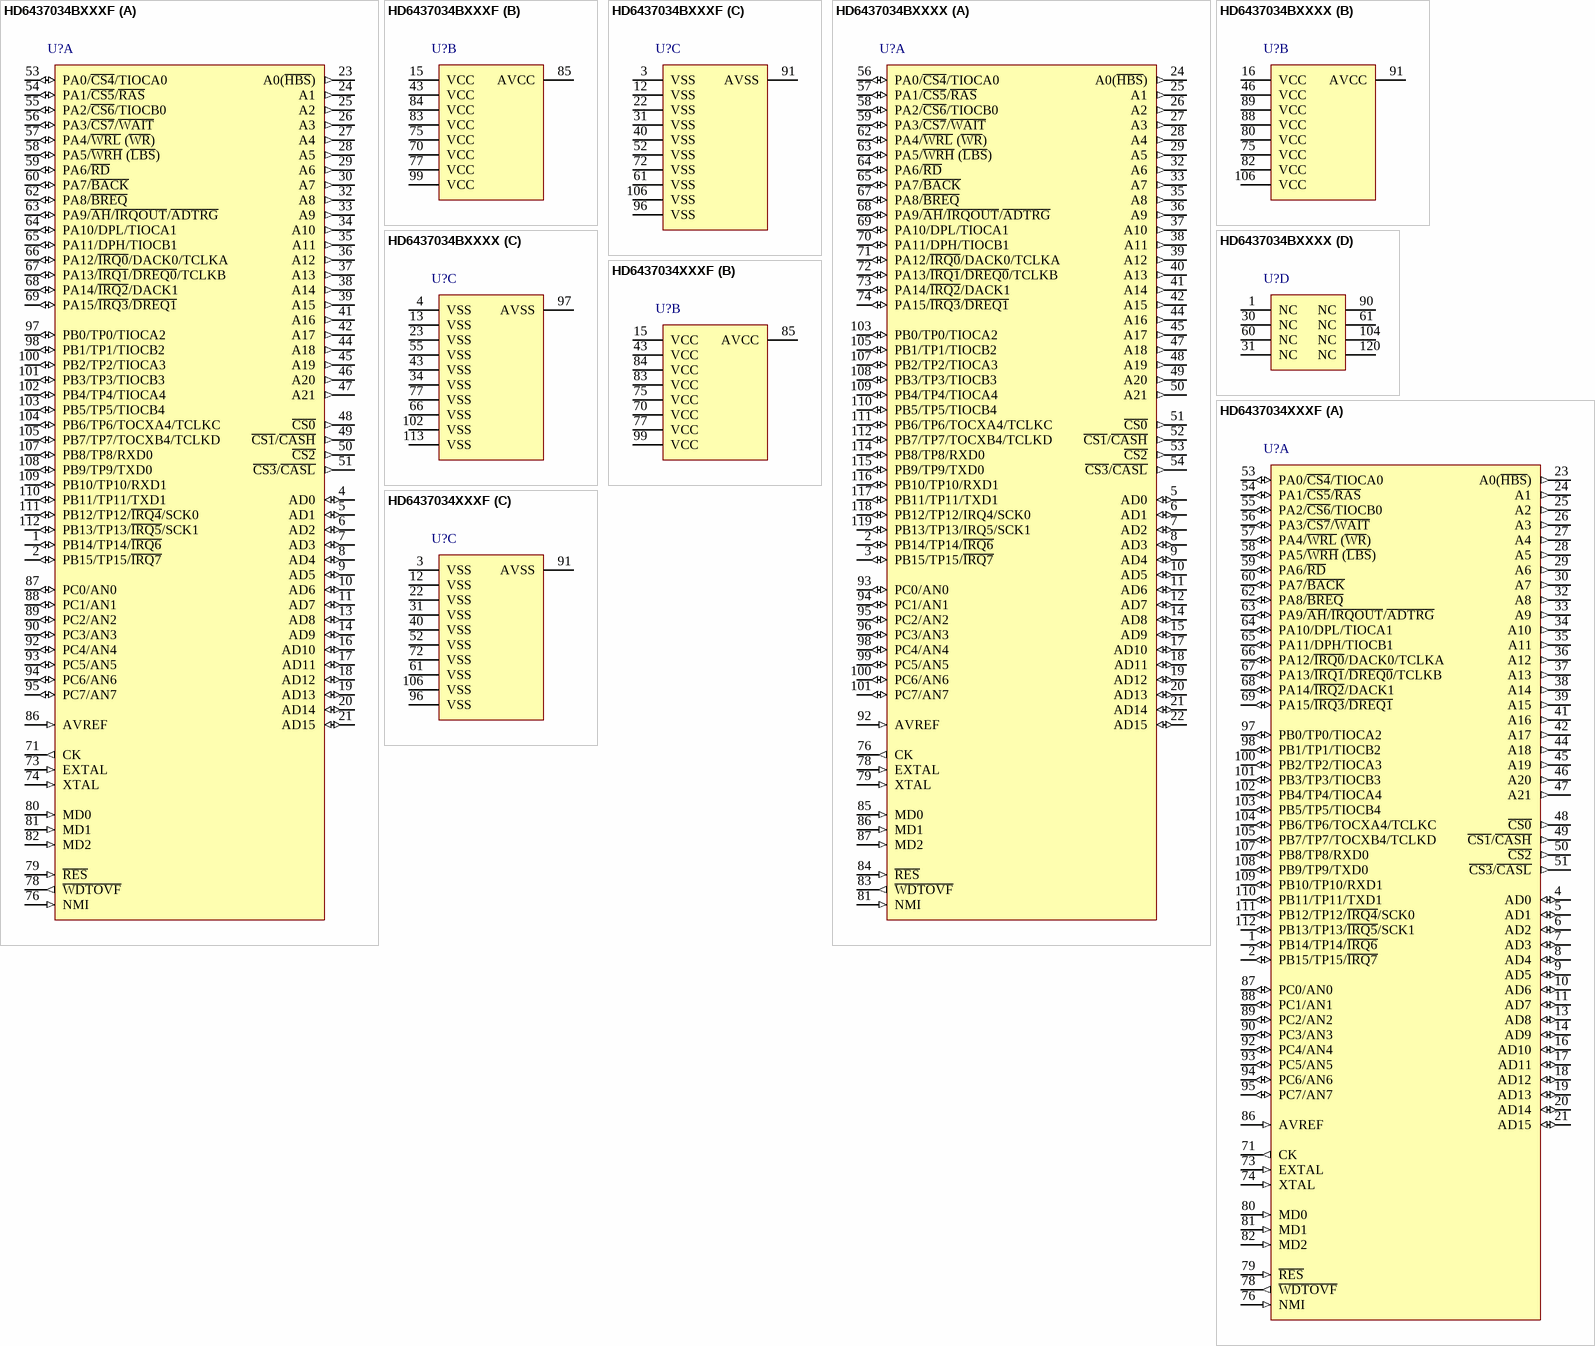
[diagram p104: symbols HD6437034BXXXF to HD6437034XXXF]